# EAGLE library part RJ45-MAG (library r2p_connector)
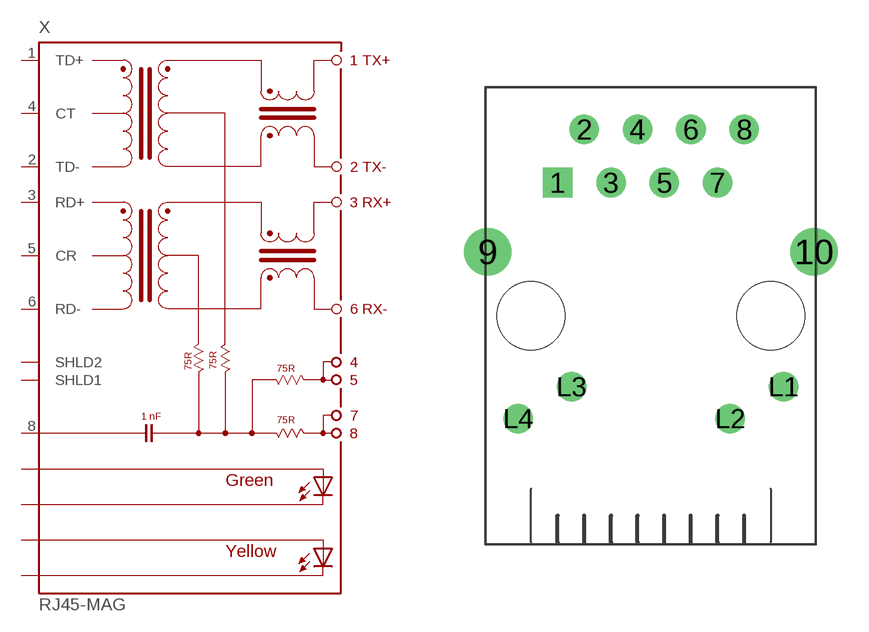
[diagram p3: symbol with the pads of WIZNET_RB1-125BAG1A; footprint WIZNET_RB1-125BAG1A]

Designator prefix X

## RJ45-MAG-RB1-125BAG1A  [WIZNET_RB1-125BAG1A]
1  TD+  pas
2  TD-  pas
3  RD+  pas
4  CT  pas
5  CR  pas
6  RD-  pas
8  8  pas
9  SHLD1  pas
10  SHLD2  pas
L1  YA  pas
L2  YK  pas
L3  GA  pas
L4  GK  pas

## Footprint WIZNET_RB1-125BAG1A (pad centres in mm)
drill 0.9 square: 1 -4.444,6.35
drill 0.9: 2 -3.175,8.89; 3 -1.905,6.35; 4 -0.634,8.89; 5 0.635,6.35; 6 1.905,8.89; 7 3.175,6.35; 8 4.446,8.89; L1 6.325,-3.38; L2 3.785,-4.9; L3 -3.785,-3.38; L4 -6.325,-4.9
drill 1.5: 9 -7.775,3.05; 10 7.775,3.05
hole 3.25 at -5.715,0
hole 3.25 at 5.715,0